# Altium schematic symbol library A.SchLib: 11 symbols
Pins are listed as number, name and electrical type; pins without a type are passive.

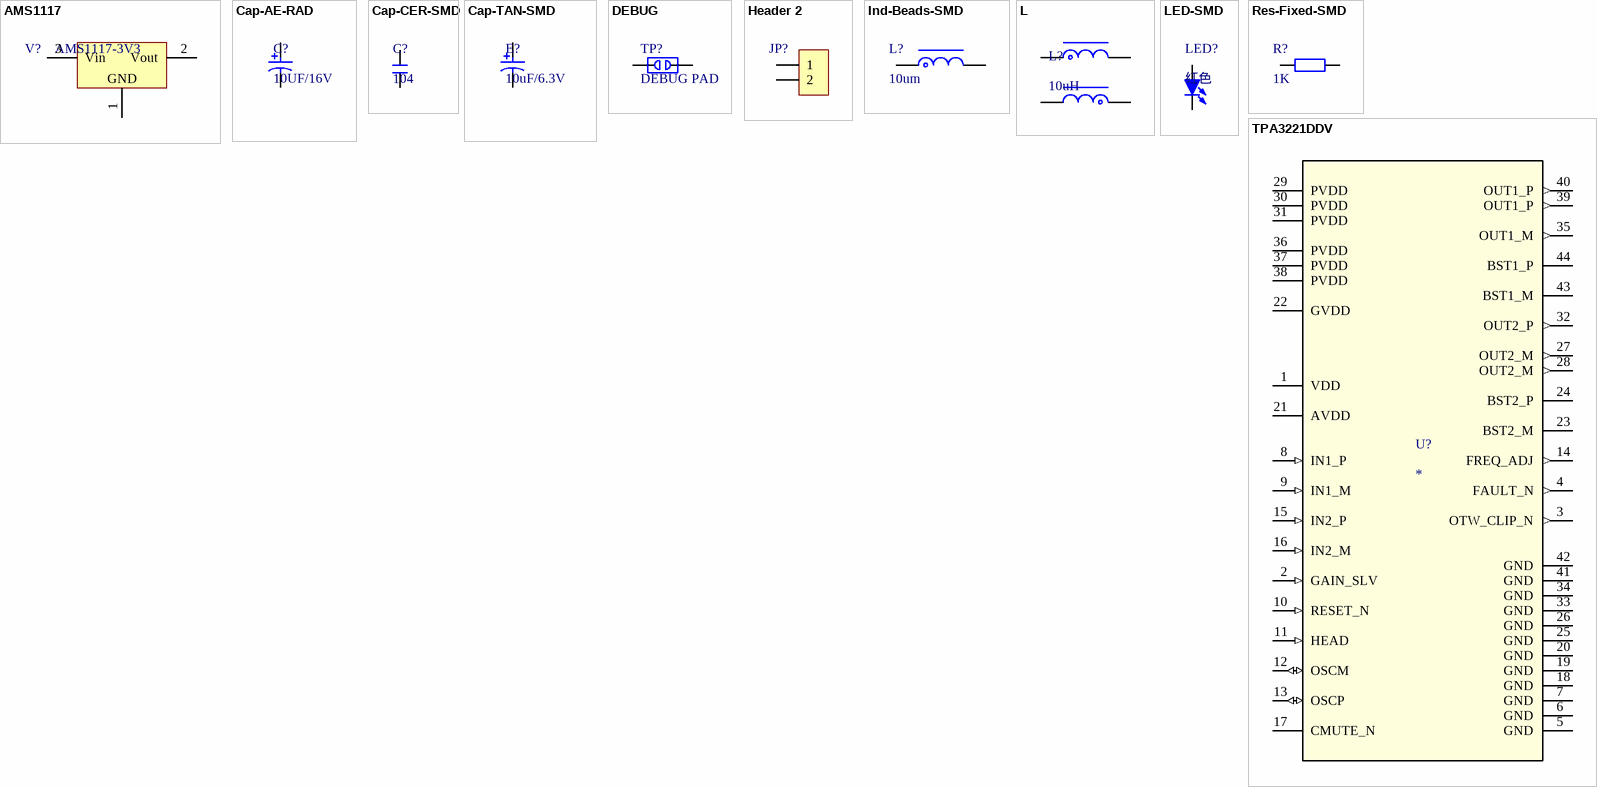
[diagram p0: symbols AMS1117 to TPA3221DDV]

## AMS1117
designator V?, comment AMS1117-3V3
三端稳压芯片; BOM名称: 稳压芯片; 版权归属: 源创客; 学习资源: www.ooocke.com
footprint SOT223_L (6.4x7x1.6mm(长宽高))
footprint SOT223_M (6.4x7x1.6mm(长宽高))
footprint SOT223_N (6.4x7x1.6mm(长宽高))
footprint SOT89_L (4.6x4.3x1.6mm(长宽高))
footprint SOT89_N (4.6x4.3x1.6mm(长宽高))
footprint SOT89_M (4.6x4.3x1.6mm(长宽高))
pins: 1 GND, 2 Vout, 3 Vin

## Cap-AE-RAD
designator C?, comment 10UF/16V
铝电解电容-直插
footprint CAP 7.5*16*31.5 (脚距7.5mm直径16mm高度31.5mm)
footprint CAP 2.5*6.3*11.2 (脚距2.5mm直径6.3mm高度11.2mm)
pins: A, K

## Cap-CER-SMD
designator C?, comment 104
瓷片电容-贴片
footprint C 0603 (无极性贴片电容)
footprint C 1206 (无极性贴片电容)
footprint CCB_Cap_5mm
footprint Xcap2
footprint C 1206_little (无极性贴片电容)
footprint CCB_Cap_7.5mm
pins: 1, 2

## Cap-TAN-SMD
designator E?, comment 10uF/6.3V
钽电解电容-贴片
footprint CD B(3528) (长3.5mm，宽2.8mm，厚1.9mm)
pins: A, K

## DEBUG
designator TP?, comment DEBUG PAD
调试断点焊盘; 版权归属: 源创客; BOM名称: 调试断点焊盘; 学习资源: www.ooocke.com
footprint DEBUG PAD2 (调试断点焊盘)
pins: 1, 2

## Header 2
designator JP?, comment HDR-1X2  (value not drawn)
2P接插件; 版权归属: 源创客; BOM名称: 2P接插件; 学习资源: www.ooocke.com
footprint HDR-1X2 (排针，2脚)
footprint HDR-1X2_H (弯脚排针，2脚)
footprint HDR-1X2_M (排母，2脚)
footprint HDR-1X2_Y (圆孔排母，2脚)
footprint XH2.54-2P (接插件，2P)
footprint KF2510-2P (接插件/2A)
footprint VH3.96-2P (接插件，25V/5A)
footprint XH2.54-2P_H (接插件，2P)
footprint VH3.96-2P_H (接插件，25V/5A)
footprint KF301-2P (可拼接端子/6A)
footprint KF2EDGK5.0-2P (直列插拔式端子)
footprint PH2.0 D-L-2P (接插件/1A)
footprint PH2.0 D-W-2P (接插件/1A)
footprint KF2EDGK5.0-2P_H (弯角插拔式端子)
footprint KF7620-2P (15.2*12*12mm(长宽高))
footprint KF350-2P (可拼接端子/10A)
footprint KF128-3.81-2P (螺钉式接线端子，脚距3.81mm)
footprint KF128-5.08-2P (螺钉式接线端子，脚距5.08mm)
footprint PH2.0 S-W-2P (长：8mm，宽：7.6mm，高：5.5mm)
footprint KF2EDGK5.08-2P (直列插拔式端子)
footprint KF2EDGK5.08-2P_H (弯角插拔式端子)
footprint HDR2.54 S-W-2P (2P卧式贴片排针2.54)
footprint HDR2.54 S-W-2P_M (2P卧式贴片排母2.54)
pins: 1, 2

## Ind-Beads-SMD
designator L?, comment 10um
贴片电感-小功率
footprint L 0402 (小功率贴片电感)
footprint L 0603 (小功率贴片电感)
footprint L 0805 (小功率贴片电感)
footprint L 1206 (小功率贴片电感)
footprint L 1210 (小功率贴片电感)
footprint L 1806 (小功率贴片电感)
footprint L 1812 (小功率贴片电感)
pins: 1, 2

## L
designator L?, comment 10uH
footprint L
pins: 1, 2, 3, 4

## LED-SMD
designator LED?, comment 红色
贴片LED; 版权归属: 源创客; BOM名称: 贴片LED; 学习资源: www.ooocke.com
footprint LED 0603W (白色0603LED)
footprint LED 0603R (红色0603LED)
footprint LED 0603B (蓝色0603LED)
footprint LED 0603G (绿色0603LED)
footprint LED 0603Y (黄色0603LED)
footprint LED 0805G (绿色0805LED)
footprint LED 0805R (红色0805LED)
footprint LED 0805B (蓝色0805LED)
footprint LED 0805Y (黄色0805LED)
footprint LED 3528 (白色3528LED)
footprint LED 1206G (绿色1206LED)
footprint LED 5730-V (紫色5730LED)
footprint LED 1206Y (黄色1206LED)
footprint LED 0805W (白色0805LED)
footprint LED 1206B (蓝色1206LED)
footprint LED 1206W (白色1206LED)
footprint LED 1206R (红色1206LED)
pins: 1 A, 2 K

## Res-Fixed-SMD
designator R?, comment 1K
固定电阻器-贴片
footprint Res-SMD-0201 (1/20W贴片电阻)
footprint Res-SMD-0402 (1/16W贴片电阻)
footprint Res-SMD-0603 (1/10W贴片电阻)
footprint Res-SMD-0805 (1/8W贴片电阻)
footprint Res-SMD-1206 (1/4W贴片电阻)
footprint Res-SMD-1210 (1/3W贴片电阻)
footprint Res-SMD-1812 (1/2W贴片电阻)
footprint Res-SMD-2010 (3/4W贴片电阻)
footprint Res-SMD-2512 (1W贴片电阻)
pins: 1, 2

## TPA3221DDV
designator U?
No Description Available; Manufacturer: Texas Instruments; PartNumber: TPA3221DDVR; RefDes: RefDes; Type: DEV; Value: Value; Copyright: Copyright (C) 2018 Accelerated Designs. All rights reserved
footprint DDV0044D_N
pins: 1 VDD (power), 2 GAIN_SLV (in), 3 OTW_CLIP_N (out), 4 FAULT_N (out), 5 GND (power), 6 GND (power), 7 GND (power), 8 IN1_P (in), 9 IN1_M (in), 10 RESET_N (in), 11 HEAD (in), 12 OSCM (io), 13 OSCP (io), 14 FREQ_ADJ (out), 15 IN2_P (in), 16 IN2_M (in), 17 CMUTE_N (power), 18 GND (power), 19 GND (power), 20 GND (power), 21 AVDD (power), 22 GVDD (power), 23 BST2_M (power), 24 BST2_P (power), 25 GND (power), 26 GND (power), 27 OUT2_M (out), 28 OUT2_M (out), 29 PVDD (power), 30 PVDD (power), 31 PVDD (power), 32 OUT2_P (out), 33 GND (power), 34 GND (power), 35 OUT1_M (out), 36 PVDD (power), 37 PVDD (power), 38 PVDD (power), 39 OUT1_P (out), 40 OUT1_P (out), 41 GND (power), 42 GND (power), 43 BST1_M (power), 44 BST1_P (power)